# Altium integrated library DSPIC33FJ32GP202-I_SP.IntLib: 1 symbol
Pins are listed as number, name and electrical type; pins without a type are passive.

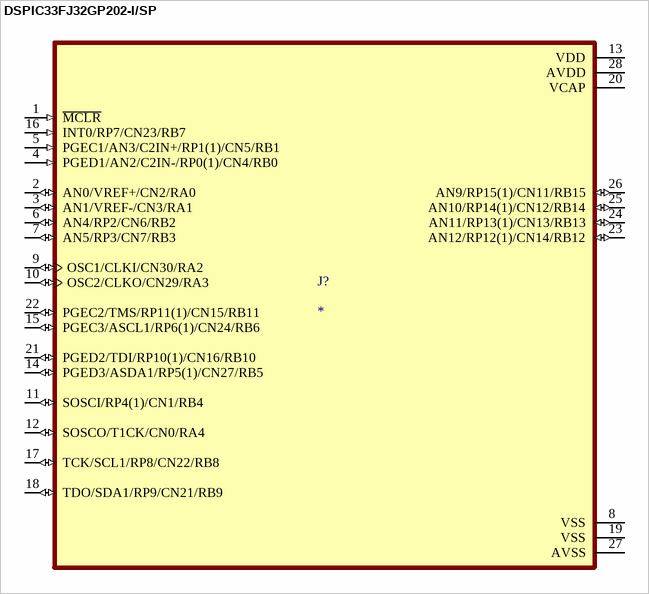
[diagram p0: symbol DSPIC33FJ32GP202-I/SP]

## DSPIC33FJ32GP202-I/SP
designator J?
MP: DSPIC33FJ32GP202-I/SP; Package: None; Price: None; Value: *; Availability: Unavailable
footprint DIP787W46P254L3467H508Q28
pins: 1 ~{MCLR} (in), 2 AN0/VREF+/CN2/RA0 (io), 3 AN1/VREF-/CN3/RA1 (io), 4 PGED1/AN2/C2IN-/RP0(1)/CN4/RB0 (in), 5 PGEC1/AN3/C2IN+/RP1(1)/CN5/RB1 (in), 6 AN4/RP2/CN6/RB2 (io), 7 AN5/RP3/CN7/RB3 (io), 8 VSS (power), 9 OSC1/CLKI/CN30/RA2 (io), 10 OSC2/CLKO/CN29/RA3 (io), 11 SOSCI/RP4(1)/CN1/RB4 (io), 12 SOSCO/T1CK/CN0/RA4 (io), 13 VDD (power), 14 PGED3/ASDA1/RP5(1)/CN27/RB5 (io), 15 PGEC3/ASCL1/RP6(1)/CN24/RB6 (io), 16 INT0/RP7/CN23/RB7 (in), 17 TCK/SCL1/RP8/CN22/RB8 (io), 18 TDO/SDA1/RP9/CN21/RB9 (io), 19 VSS (power), 20 VCAP (power), 21 PGED2/TDI/RP10(1)/CN16/RB10 (io), 22 PGEC2/TMS/RP11(1)/CN15/RB11 (io), 23 AN12/RP12(1)/CN14/RB12 (io), 24 AN11/RP13(1)/CN13/RB13 (io), 25 AN10/RP14(1)/CN12/RB14 (io), 26 AN9/RP15(1)/CN11/RB15 (io), 27 AVSS (power), 28 AVDD (power)